# EAGLE library part LT1933 (library Labor)
LT1933 - 600mA, 500kHz Step-Down Switching Regulator in SOT-23 Wide Input Range: 3.6V to 36V 5V at 600mA from 16V to 36V Input 3.3V at 600mA from 12V to 36V Input 5V at 500mA from 6.3V to 36V Input 3.3V at 500mA from 4.5V to 36V Input Fixed Frequency 500kHz Operation Uses Tiny Capacitors and Inductors Soft-Start Internally Compensated Low Shutdown Current: <2µA Output Adjustable Down to 1.25V Low Profile (1mm) SOT-23 (ThinSOT™) and (2mm x 3mm x 0.75mm) 6-Pin DFN Packages
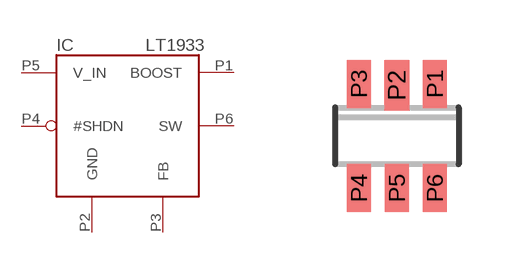
[diagram p9: symbol with the pads of SOT23-6; footprint SOT23-6]

Designator prefix IC

## LT1933  [SOT23-6]
P1  BOOST  pas
P2  GND  pwr
P3  FB  pas
P4  #SHDN  pas
P5  V_IN  pas
P6  SW  pas

## Footprint SOT23-6 (pad centres in mm)
Small Outline Transistor, 5 lead
smd 0.6 x 1.2: P1 0.95,1.306; P3 -0.95,1.306; P4 -0.95,-1.306; P5 0,-1.306; P6 0.95,-1.306
smd 0.635 x 1.27: P2 0,1.27